# Altium schematic symbol library MIC3490.SchLib: 1 symbol
Pins are listed as number, name and electrical type; pins without a type are passive.

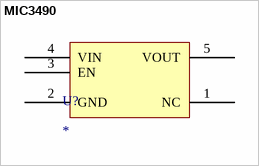
[diagram p0: symbol MIC3490]

## MIC3490
designator U?
pins: 1 NC, 2 GND, 3 EN, 4 VIN, 5 VOUT